# EAGLE library part SJ-43504-SMT-TR (library SJ-43504-SMT-TR)
audio jack, 3.5 mm, rt, 4 conductor, mid mount SMT, 2 switches, T/R package
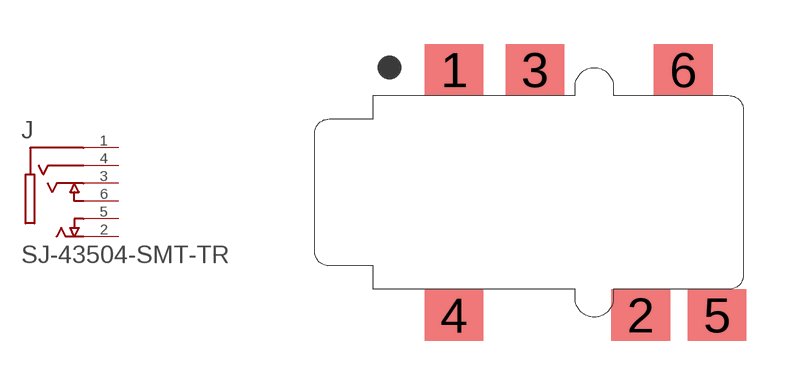
[diagram p0: symbol with the pads of CUI_SJ-43504-SMT-TR; footprint CUI_SJ-43504-SMT-TR]

Designator prefix J

## SJ-43504-SMT-TR (CUI_purchase_URL: https://www.cui.com/product/interconnect/connectors/audio-connectors/jacks/sj-43504-smt-tr?utm_source=snapeda.com&utm_medium=referral&utm_campaign=snapedaBOM; Description: 3.5 mm, 4 Conductors, Right Angle, Mid Mount _SMT_, Dual Switches, Shielded, Audio Jack Connector; Digi-Key_Part_Number: CP-43504SJCT-ND; Digi-Key_Purchase_URL: https://www.digikey.jp/product-detail/en/cui-devices/SJ-43504-SMT-TR/CP-43504SJCT-ND/2625184?utm_source=snapeda&utm_medium=aggregator&utm_campaign=symbol; MF: CUI Inc.; MP: SJ-43504-SMT-TR; Package: None)  [CUI_SJ-43504-SMT-TR]
1  SLEEVE  pas
2  TIP  pas
3  RING1  pas
4  RING2  pas
5  TIP_SWITCH  pas
6  RING1_SWITCH  pas

## Footprint CUI_SJ-43504-SMT-TR (pad centres in mm)
smd 2 x 1.75: 1 -3.55,4.175; 2 2.8,-4.175; 3 -0.8,4.175; 4 -3.55,-4.175; 5 5.4,-4.175; 6 4.25,4.175